# Altium footprint library BatteryPack.PcbLib: 1 footprints
Each footprint in its own frame and in the unit in brackets; x right, y up, seen from the top. Pads: shape width x height; smd on the part's side, far side on the other; paste and mask are expansions set on the pad; w line width, h text height; cw(c..) or ccw(c..) is an arc to the next point about the centre after c.
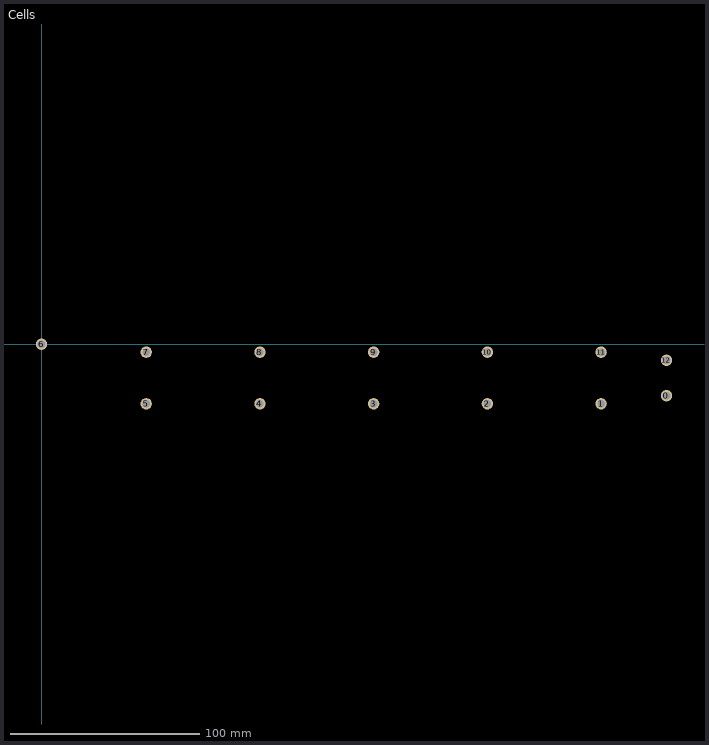
[diagram p0: the footprint, top view; thin cyan lines are the x and y axes]

## Cells [mm]
pads (13):
  round 6 hole 4: 0(329.75,-27.15) 1(295.25,-31.4) 2(235.25,-31.4) 3(175.25,-31.4) 4(115.25,-31.4) 5(55.25,-31.4) 6(0,0) 7(55.25,-4.2) 8(115.25,-4.2) 9(175.25,-4.2) 10(235.25,-4.2) 11(295.25,-4.2) 12(329.75,-8.45)